# EAGLE library part M41T62Q6F (library ST Microelectronics)
Serial real-time clocks with alarm
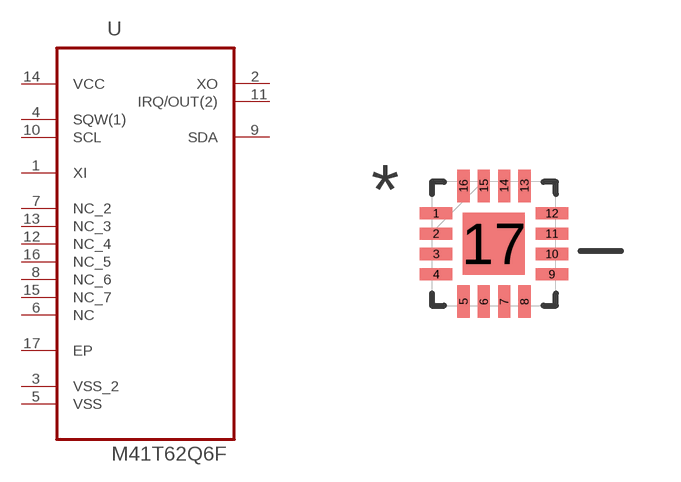
[diagram p186: symbol with the pads of QFN50P300X300X100-17N; footprint QFN50P300X300X100-17N]

Designator prefix U

## M41T62Q6F (MPN: M41T62Q6F; OC_FARNELL: 1224441; OC_NEWARK: 56P9316; PACKAGE: QFN-16; SUPPLIER: STMICROELECTRONICS)  [QFN50P300X300X100-17N]
1  XI  in
2  XO  out
3  VSS_2  pas
4  SQW(1)  in
5  VSS  pas
6  NC  nc
7  NC_2  nc
8  NC_6  nc
9  SDA
10  SCL  in
11  IRQ/OUT(2)  out
12  NC_4  nc
13  NC_3  nc
14  VCC  pwr
15  NC_7  nc
16  NC_5  nc
17  EP  pas

## Footprint QFN50P300X300X100-17N (pad centres in mm)
smd 0.813 x 0.305: 1 -1.448,0.762; 2 -1.448,0.254; 3 -1.448,-0.254; 4 -1.448,-0.762; 9 1.448,-0.762; 10 1.448,-0.254; 11 1.448,0.254; 12 1.448,0.762
smd 0.305 x 0.813: 5 -0.762,-1.448; 6 -0.254,-1.448; 7 0.254,-1.448; 8 0.762,-1.448; 13 0.762,1.448; 14 0.254,1.448; 15 -0.254,1.448; 16 -0.762,1.448
smd 1.549 x 1.549: 17 0,0